# Altium footprint library DROSSEL_TOR_50X30X20.PcbLib: 1 footprints
Each footprint in its own frame and in the unit in brackets; x right, y up, seen from the top. Pads: shape width x height; smd on the part's side, far side on the other; paste and mask are expansions set on the pad; w line width, h text height; cw(c..) or ccw(c..) is an arc to the next point about the centre after c.
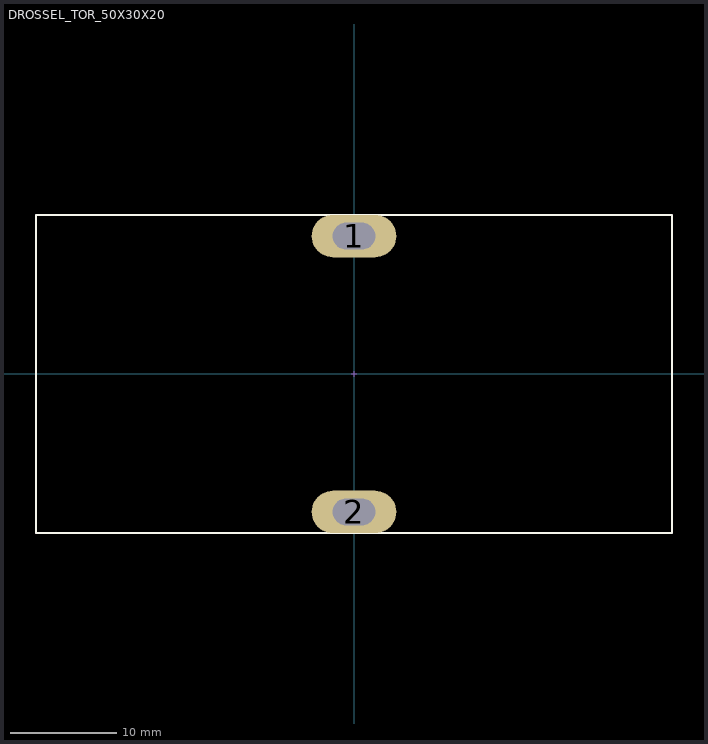
[diagram p0: the footprint, top view; thin cyan lines are the x and y axes]

## DROSSEL_TOR_50X30X20 [mm]
height 0.95
pads (2):
  oval 8x4 hole 2.5 slot 4 at 0 deg: 1(0,13) 2(0,-13)
Top Overlay:
  lines w0.2: -30,-15 30,-15 30,15 -30,15 -30,-15
Top Assembly:
  lines w0.1: -0.25,0 0.25,0 ; 0,-0.25 0,0.25 ; -30,-15 -30,15 30,15 30,-15 -30,-15
  text "'.Designator'" at 0,0 h0.8
3D body "Дроссель (2).STEP": height 61.25, standoff -5, extent -30,-15 30,15